# EAGLE library part HCTL-1100 (library avago)
General Purpose Motion Control ICs Source: AVAGO TECHNOLOGIES .. 5988-5896EN.pdf
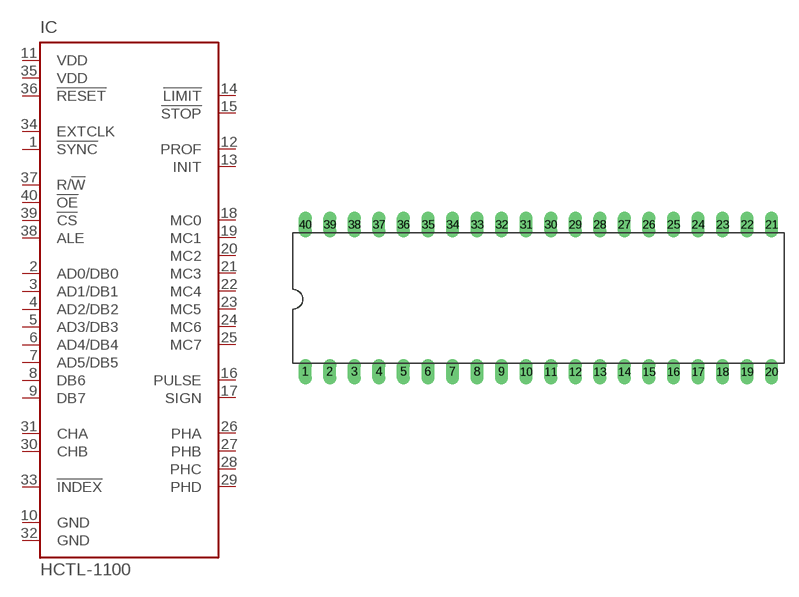
[diagram p7: symbol with the pads of DIL40; footprint DIL40]

Designator prefix IC

## HCTL-1100 (MF: AGILENT TECHNOLOGIES; MPN: HCTL-1100; OC_FARNELL: 407460; OC_NEWARK: 17M9298)  [DIL40]
1  !SYNC  in
2  AD0/DB0
3  AD1/DB1
4  AD2/DB2
5  AD3/DB3
6  AD4/DB4
7  AD5/DB5
8  DB6
9  DB7
10  GND  pwr
11  VDD  pwr
12  PROF  out
13  INIT  out
14  !LIMIT  in
15  !STOP  in
16  PULSE  out
17  SIGN  out
18  MC0  out
19  MC1  out
20  MC2  out
21  MC3  out
22  MC4  out
23  MC5  out
24  MC6  out
25  MC7  out
26  PHA  out
27  PHB  out
28  PHC  out
29  PHD  out
30  CHB  in
31  CHA  in
32  GND  pwr
33  !INDEX  in
34  EXTCLK  in
35  VDD  pwr
36  !RESET  in
37  R/!W  in
38  ALE  in
39  !CS  in
40  !OE  in

## Footprint DIL40 (pad centres in mm)
Dual In Line Package
drill 0.813 long: 1 -24.13,-7.62; 2 -21.59,-7.62; 3 -19.05,-7.62; 4 -16.51,-7.62; 5 -13.97,-7.62; 6 -11.43,-7.62; 7 -8.89,-7.62; 8 -6.35,-7.62; 9 -3.81,-7.62; 10 -1.27,-7.62; 11 1.27,-7.62; 12 3.81,-7.62; 13 6.35,-7.62; 14 8.89,-7.62; 15 11.43,-7.62; 16 13.97,-7.62; 17 16.51,-7.62; 18 19.05,-7.62; 19 21.59,-7.62; 20 24.13,-7.62; 21 24.13,7.62; 22 21.59,7.62; 23 19.05,7.62; 24 16.51,7.62; 25 13.97,7.62; 26 11.43,7.62; 27 8.89,7.62; 28 6.35,7.62; 29 3.81,7.62; 30 1.27,7.62; 31 -1.27,7.62; 32 -3.81,7.62; 33 -6.35,7.62; 34 -8.89,7.62; 35 -11.43,7.62; 36 -13.97,7.62; 37 -16.51,7.62; 38 -19.05,7.62; 39 -21.59,7.62; 40 -24.13,7.62